# EAGLE library part LUMBERG-2,5MBXX-10 (library 1A-meinLib)
Minimodul-Buchsenleiste Typ 2,5 MB, Lumberg. Passend zu 2,5 MS
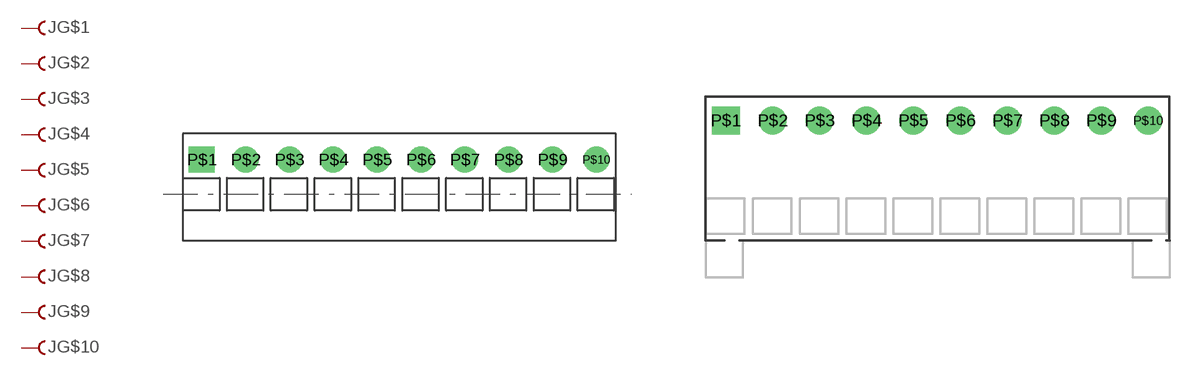
[diagram p251: symbol with the pads of LUMBERG-2,5MB-10; footprints LUMBERG-2,5MB-10, LUMBERG-2,5MBPH-10]

Designator prefix J; gates G$1=F G$2=F G$3=F G$4=F G$5=F G$6=F G$7=F G$8=F G$9=F G$10=F

## LUMBERG-2,5MBXX-10  [LUMBERG-2,5MB-10]
P$1  G$1:F  pas
P$2  G$2:F  pas
P$3  G$3:F  pas
P$4  G$4:F  pas
P$5  G$5:F  pas
P$6  G$6:F  pas
P$7  G$7:F  pas
P$8  G$8:F  pas
P$9  G$9:F  pas
P$10  G$10:F  pas

## LUMBERG-2,5MBXX-10PH  [LUMBERG-2,5MBPH-10]
Pads as for LUMBERG-2,5MB-10

## Footprint LUMBERG-2,5MB-10 (pad centres in mm)
Buchsenleiste 2,5MB, 10 polig, stehende ausführung, anreihbar, LUMBERG
drill 1 square: P$1 0,0
drill 1 round: P$2 2.54,0; P$3 5.08,0; P$4 7.62,0; P$5 10.16,0; P$6 12.7,0; P$7 15.24,0; P$8 17.78,0; P$9 20.32,0; P$10 22.86,0

## Footprint LUMBERG-2,5MBPH-10 (pad centres in mm)
Buchsenleiste 2,5MBPH, 10 polig, Winkelausführung mit Haltekrallen, anreihbar, LUMBERG
drill 1 square: P$1 -11.43,0
drill 1 round: P$2 -8.89,0; P$3 -6.35,0; P$4 -3.81,0; P$5 -1.27,0; P$6 1.27,0; P$7 3.81,0; P$8 6.35,0; P$9 8.89,0; P$10 11.43,0